# Altium schematic symbol library Stabilizejtor.SCHLIB: 10 symbols
Pins are listed as number, name and electrical type; pins without a type are passive.

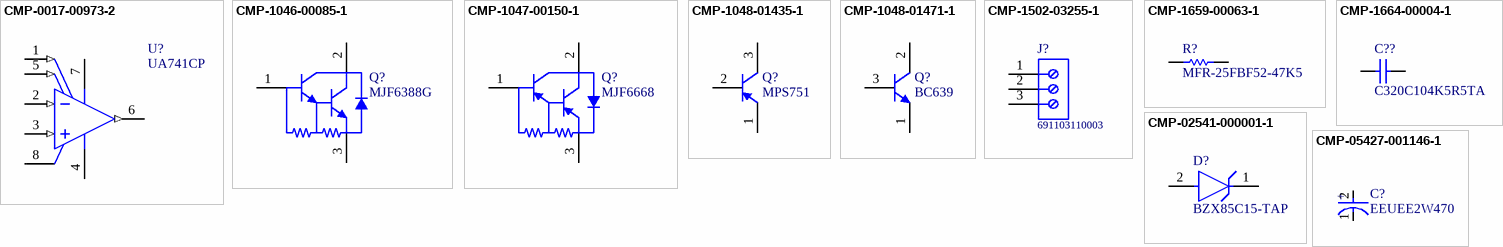
[diagram p0: symbols CMP-0017-00973-2 to CMP-05427-001146-1]

## CMP-0017-00973-2
designator U?, comment UA741CP
General-Purpose Operational Amplifier, 7 to 36 V, 0 to 70 degC, 8-pin DIP (P8), Pb-Free (RoHS); Manufacturer: Texas Instruments; Iq per channel(Max)(mA): 2.8; Number of Channels: 1; Total Supply Voltage(Min)(+5V is 5, +/-5V is 10): 7; IIB(Max)(pA): 800000; Slew Rate(Typ)(V/us): 0.5; Total Supply Voltage(Max)(+5V is 5, +/-5V is 10): 36; Vio (25C)(Max)(mV): 6; CMRR(Min)(dB): 70; Sub Family: General Purpose Amplifier, High Supply Voltage Amplifier (>=30V); PackageVersion: 4040082/E, 04/2010; PackageReference: P0008A; ComponentLink1URL: http://www.ti.com/; Mounting Technology: Through Hole; ComponentLink1Description: Manufacturer URL; GBW(Typ)(MHz): 1; ComponentLink2Description: Datasheet; ComponentLink2URL: http://www.ti.com/lit/ds/symlink/ua741.pdf; PartNumber: UA741CP; Code_JEDEC: MS-001; ComponentLink3Description: Package Specification; DatasheetVersion: SLOS094B; ComponentLink3URL: http://www.ti.com/litv/pdf/mpdi001b; PackageDescription: 8-Pin Plastic In-Line, Body 9.59 x 6.35 mm, Pitch 2.54 mm; Eco-Plan: Pb-Free (RoHS); Manufacturer Part Number: UA741CP
footprint P0008A (DIP, 8-Leads, Body 10.15x6.6mm, Pitch 2.54mm)
pins: 1 OFFSET N1 (in), 2 IN- (in), 3 IN+ (in), 4 VCC- (power), 5 OFFSET N2 (in), 6 OUT (out), 7 VCC+ (power), 8 NC

## CMP-1046-00085-1
designator Q?, comment MJF6388G
Complementary Power Darlington, for Isolated Package Application, 3-Pin TO-220, Pb-Free, Tube; Manufacturer: On Semiconductor; hFE Max: 15000; Polarity: NPN; IC Continuous (A): 10; ComponentLink1URL: http://www.onsemi.com/; PackageReference: TO-220-3-221D-03; ComponentLink2Description: Datasheet; RoHS: TRUE; Packing: Tube; ComponentLink2URL: http://www.onsemi.cn/pub_link/Collateral/MJF6388-D.PDF; Mounting Technology: Through Hole; PartNumber: MJF6388G; DatasheetVersion: Rev. 11; ComponentLink3Description: Package Specification; PackageVersion: Rev. K, 02/2009; ComponentLink1Description: Manufacturer URL; ComponentLink3URL: http://www.onsemi.com/pub_link/Collateral/221D-03.PDF; PackageDescription: 3-Pin Flange Mount, Vertical Straight Lead, Body 10.295 x 4.7 mm, Pitch 2.54 mm; Manufacturer: ON Semiconductor; Manufacturer Part Number: MJF6388G
footprint ONSC-TO-220-3-221D-03 (FM, 3-Leads, Body 10.65x4.9mm, Pitch 2.54mm)
pins: 1 B, 2 C, 3 E

## CMP-1047-00150-1
designator Q?, comment MJF6668
Complementary Power Darlington, for Isolated Package Application, 3-Pin TO-220, Tube; Manufacturer: On Semiconductor; IC Continuous (A): 10; hFE Max (k): 15; Polarity: PNP; ComponentLink3URL: http://www.onsemi.com/pub_link/Collateral/221D-03.PDF; DatasheetVersion: Rev. 11; ComponentLink2Description: Datasheet; ComponentLink1Description: Manufacturer URL; Mounting Technology: Through Hole; PackageVersion: Rev. K, 02/2009; PackageDescription: 3-Pin Flange Mount, Vertical Straight Lead, Body 10.295 x 4.7 mm, Pitch 2.54 mm; Packing: Tube; PartNumber: MJF6668; RoHS: FALSE; ComponentLink3Description: Package Specification; PackageReference: TO-220-3-221D-03; ComponentLink2URL: http://www.onsemi.com/pub_link/Collateral/MJF6388-D.PDF; ComponentLink1URL: http://www.onsemi.com/; Manufacturer: ON Semiconductor; Manufacturer Part Number: MJF6668
footprint ONSC-TO-220-3-221D-03 (FM, 3-Leads, Body 10.65x4.9mm, Pitch 2.54mm)
pins: 1 B, 2 C, 3 E

## CMP-1048-01435-1
designator Q?, comment MPS751
Amplifier Transistor, 3-Pin TO-92, Bulk Box; Manufacturer: On Semiconductor; Manufacturer: ON Semiconductor / Fairchild; fT Min (MHz): 75; Polarity: PNP; Note1: 0; IC Continuous (A): 2; ComponentLink2URL: http://www.onsemi.cn/pub_link/Collateral/MPS650-D.PDF; PackageVersion: Rev. AM; ComponentLink2Description: Datasheet; ComponentLink3Description: Package Specification; DatasheetVersion: Rev. 4; ComponentLink3URL: http://www.onsemi.cn/pub_link/Collateral/2N6426-D.PDF; PartNumber: MPS751; RoHS: FALSE; Mounting Technology: Through Hole; ComponentLink1URL: http://www.onsemi.com/; PackageDescription: 3-Pin Transistor Outline, Body 4.825 x 3.685 mm, Pitch 1.27 mm; PackageReference: TO-92-3-29-11_AM_SL; Packing: Bulk Box; ComponentLink1Description: Manufacturer URL; Manufacturer Part Number: MPS751
footprint ONSC-TO-92-3-29-11 (TO, 3-Leads, Body Dia 4.7mm, Pitch 1.27mm)
pins: 1 E, 2 B, 3 C

## CMP-1048-01471-1
designator Q?, comment BC639
High Current Transistor, NPN Silicon, 3-Pin TO-92, Bulk Box; Manufacturer: On Semiconductor; Manufacturer: ON Semiconductor / Fairchild; IC Continuous (A): 1; ComponentLink1URL: http://www.onsemi.com/; ComponentLink3Description: Package Specification; ComponentLink2URL: http://www.onsemi.com/pub_link/Collateral/BC635-D.PDF; RoHS: FALSE; ComponentLink3URL: http://www.onsemi.cn/pub_link/Collateral/2N6426-D.PDF; DatasheetVersion: Rev. 1; Packing: Bulk Box; ComponentLink2Description: Datasheet; Mounting Technology: Through Hole; PartNumber: BC639; PackageDescription: 3-Pin Transistor Outline, Body 4.825 x 3.685 mm, Pitch 1.27 mm; ComponentLink1Description: Manufacturer URL; PackageVersion: Rev. AM; Polarity: NPN; PackageReference: TO-92-3-29-11_AM_SL; Manufacturer Part Number: BC639
footprint ONSC-TO-92-3-29-11 (TO, 3-Leads, Body Dia 4.7mm, Pitch 1.27mm)
pins: 1 E, 2 C, 3 B

## CMP-1502-03255-1
designator J?, comment 691103110003
Series 1031 - 3.50 mm Horizontal Entry Modular with Pressure Clamp WR-TBL, 3 pin; Manufacturer: Wurth Elektronik; Manufacturer: Wurth Electronics; Pin Number: 3; Pitch: 3.50mm; Packaging: Box; Package Reference: 691103110003; Datasheet URL: http://katalog.we-online.de/em/datasheet/6911031100xx.pdf; Operating Temperature: -40to105degC; Manufacturer URL: http://www.we-online.de; Part Number: 691103110003; Publisher: WurthElektronik; Mounting Technology: THT; Manufacturer Part Number: 691103110003
footprint 691103110003 (3,50mm - modular - blue - Horizontal wire entry - Pressure clamp - 8,4mm height - 03p)
pins: 1, 2, 3

## CMP-1659-00063-1
designator R?, comment MFR-25FBF52-47K5
Axial Resistor, 47.5 KOhm, +/- 1%, 0.25 W, -55 to 155 degC, 2-Pin THD, RoHS, Bulk; Manufacturer: Yageo; Tolerance: 20%; Shielding: Shielded; Current Rating: 1.3 A; Case\Package: 1008; ComponentLink1Description: Manufacturer URL; Packaging: Tape and Reel; ComponentLink2Description: Datasheet; Radiation Hardening: No; ComponentLink2URL: http://www.yageo.com/documents/recent/Yageo%20LR_MFR_2013.pdf; Min Operating Temperature: -55 degC; Mount: Surface Mount; Width: 2 mm; Length: 2.5 mm; Max Operating Temperature: 125 degC; PackageReference: MFR-25; Height: 1.2 mm; ComponentLink1URL: http://www.yageo.com/; DatasheetVersion: Apr-13; RoHSCompliant: true; Package Quantity: 3000; Case Code (Metric): 2520; PackageDescription: 2-Pin Axial Lead, Dia 2.4 mm, Body Length 6.3 mm; Manufacturer Part Number: MFR-25FBF52-47K5
footprint RESA60-630X240 (Axial Resistor, 2-Leads, Dia 2.4mm, Body Length 6.3mm)
pins: 1, 2

## CMP-1664-00004-1
designator C??, comment C320C104K5R5TA
Radial Leaded Multilayer Ceramic Capacitor, 0.1 uF, +/- 10%, 50 V, -55 to 125 degC, 2-Pin THD, RoHS, Tape and Reel; Manufacturer: KEMET; Case\Package: SOT-23-5; Max Power Dissipation: 250 mW; Output Current: 150 mA; Dropout Voltage: 260 mV; Outputs: 1; Output Voltage: 5 V; Max Input Voltage: 8 V; Min Operating Temperature: -40 degC; Packaging: Tape and Reel; Height: 1.3 mm; Radiation Hardening: No; Pins: 5; ComponentLink1Description: Manufacturer URL; Mount: Surface Mount; RoHSCompliant: true; Max Operating Temperature: 85 degC; PackageReference: CAPR51-254-508X318X736; ComponentLink2URL: http://www.kemet.com/docfinder?Partnumber=C320C104K5R5TA; PackageDescription: 2-Pin Through Hole Device, Body 5.08 x 3.18 mm, Pitch 2.54 mm; ComponentLink1URL: http://www.kemet.com/; Width: 1.8 mm; Package Quantity: 3000; DatasheetVersion: Dec-15; Length: 3 mm; ComponentLink2Description: Datasheet; Manufacturer Part Number: C320C104K5R5TA
footprint CAPR51-254-508X318X736 (THD, 2-Leads, Body 5.08x3.18mm)
pins: 1, 2

## CMP-02541-000001-1
designator D?, comment BZX85C15-TAP
DIODE ZENER 15V 1.3W DO41; Manufacturer: Vishay; Max Reverse Leakage Current: 0.5uA; Reverse Voltage: 11V; Max Zener Voltage: 15.6V; Zener Impedance: 15Ω; Max Junction Temp: +175°C; Power Dissipation: 1300mW; Automotive Grade: Grade 0; Device Class L3: Zener Diodes; Device Class L1: Discrete Semiconductors; Automotive: Yes; Mouser Description: Zener Diodes 15 Volt 1.3 Watt 5%; Lead Free: Yes; Height: 2.6mm; Octopart: https://octopart.com/bzx85c15-tap-vishay-55401762; Temperature: to +175°C; Digikey Description: DIODE ZENER 15V 1.3W DO41; ComponentLink2URL: http://www.vishay.com/docs/85607/bzx85.pdf; Device Class L2: Diodes; RoHS: TRUE; Temperature Range High: +175°C; ComponentLink2Description: Datasheet; Package: 6.561-5001.02-4; Manufacturer Part Number: BZX85C15-TAP; Category: Diode; Nom Zener Voltage: 15V
footprint FP-6_561-5001_02-4-MFG
pins: 1 C, 2 A

## CMP-05427-001146-1
designator C?, comment EEUEE2W470
Aluminum Electrolytic Capacitors (Radial Lead Type) 47uF ±20% 450V; Manufacturer: Panasonic; Life (Hours): 10000Hour; Lead Diameter: 0.8mm; Ripple Current: 1.2A; Leakage Current: 1.279mA; Dielectric Material: Aluminium; Dissipation Factor: 0.24%; RoHS Compliant: Yes; Height - Seated (Max): 1.24inch; Capacitance: 47uF; Mount: Through Hole; Termination: Radial; Voltage Rating: 450V; Series: EE; REACH SVHC: No SVHC; Min Operating Temperature: -25°C; Voltage Rating (DC): 450V; Tolerance: 20%; Max Operating Temperature: 105°C; Packaging: Bulk; Package Quantity: 100; Diameter: 16mm; Case/Package: Radial; Radiation Hardening: No; Length: 31.5mm; Construction: RADIAL; Lead Pitch: 7.5mm; Lead Free: Lead Free; Height: 31.5mm; Voltage: 450V; Manufacturer Part Number: EEUEE2W470
footprint FP-RAD-TH-D_16_0_5-L_31_5-MFG
pins: 1 C, 2 A
text: +